# EAGLE library part TIGER (library ic)
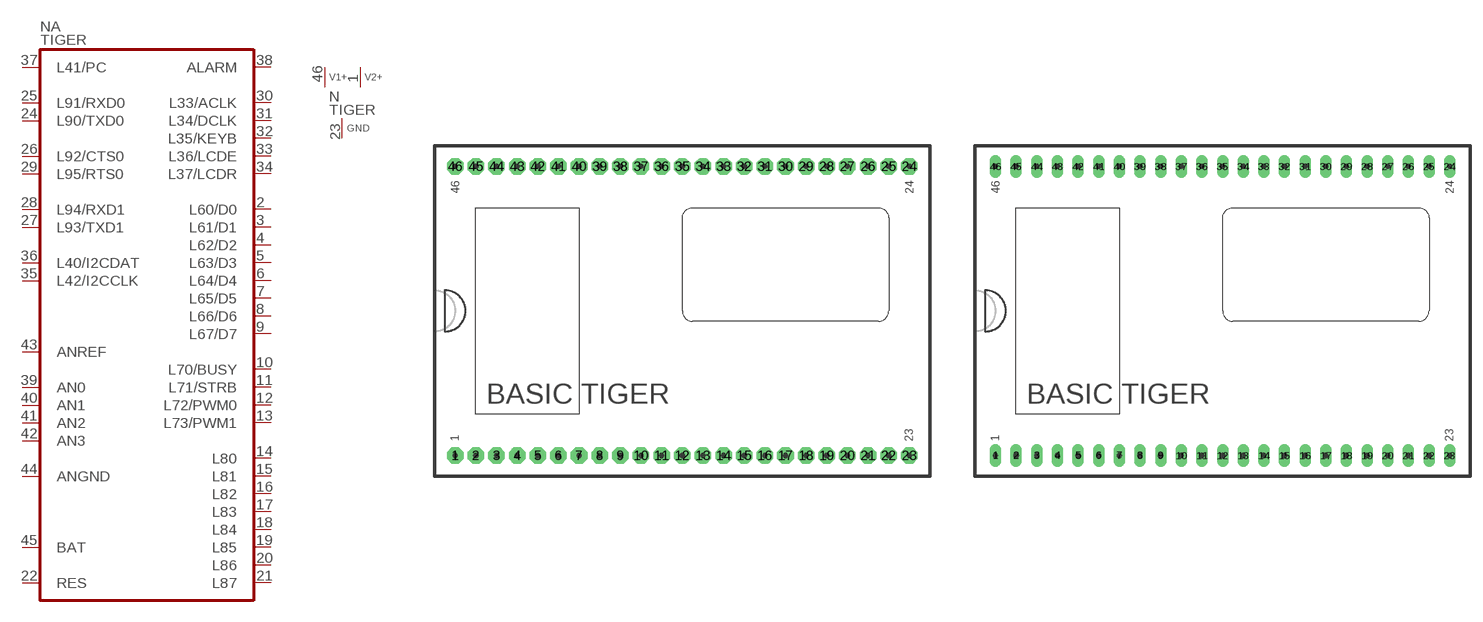
[diagram p17: symbol with the pads of TIGER_N; footprints TIGER_N, TIGER_L]

Designator prefix N; gates A=TIGER P=VTIGER

## TIGERN  [TIGER_N]
1  P:V2+  pwr
2  A:L60/D0
3  A:L61/D1
4  A:L62/D2
5  A:L63/D3
6  A:L64/D4
7  A:L65/D5
8  A:L66/D6
9  A:L67/D7
10  A:L70/BUSY
11  A:L71/STRB
12  A:L72/PWM0
13  A:L73/PWM1
14  A:L80
15  A:L81
16  A:L82
17  A:L83
18  A:L84
19  A:L85
20  A:L86
21  A:L87
22  A:RES  in
23  P:GND  pwr
24  A:L90/TXD0
25  A:L91/RXD0
26  A:L92/CTS0
27  A:L93/TXD1
28  A:L94/RXD1
29  A:L95/RTS0
30  A:L33/ACLK
31  A:L34/DCLK
32  A:L35/KEYB
33  A:L36/LCDE
34  A:L37/LCDR
35  A:L42/I2CCLK
36  A:L40/I2CDAT
37  A:L41/PC
38  A:ALARM  out
39  A:AN0  in
40  A:AN1  in
41  A:AN2  in
42  A:AN3  in
43  A:ANREF  in
44  A:ANGND  in
45  A:BAT
46  P:V1+  pwr

## TIGER  [TIGER_L]
Pads as for TIGER_N

## TIGERL  [TIGER_L]
Pads as for TIGER_N

## TIGERR  [TIGER_S]
Pads as for TIGER_N

## Footprint TIGER_N (pad centres in mm)
drill 0.813 pad 2.032 octagon: 1 -26.67,-17.78; 2 -24.13,-17.78; 3 -21.59,-17.78; 4 -19.05,-17.78; 5 -16.51,-17.78; 6 -13.97,-17.78; 7 -11.43,-17.78; 8 -8.89,-17.78; 9 -6.35,-17.78; 10 -3.81,-17.78; 11 -1.27,-17.78; 12 1.27,-17.78; 13 3.81,-17.78; 14 6.35,-17.78; 15 8.89,-17.78; 16 11.43,-17.78; 17 13.97,-17.78; 18 16.51,-17.78; 19 19.05,-17.78; 20 21.59,-17.78; 21 24.13,-17.78; 22 26.67,-17.78; 23 29.21,-17.78; 24 29.21,17.78; 25 26.67,17.78; 26 24.13,17.78; 27 21.59,17.78; 28 19.05,17.78; 29 16.51,17.78; 30 13.97,17.78; 31 11.43,17.78; 32 8.89,17.78; 33 6.35,17.78; 34 3.81,17.78; 35 1.27,17.78; 36 -1.27,17.78; 37 -3.81,17.78; 38 -6.35,17.78; 39 -8.89,17.78; 40 -11.43,17.78; 41 -13.97,17.78; 42 -16.51,17.78; 43 -19.05,17.78; 44 -21.59,17.78; 45 -24.13,17.78; 46 -26.67,17.78

## Footprint TIGER_L (pad centres in mm)
drill 0.813 pad 1.397 long: 1 -26.67,-17.78; 2 -24.13,-17.78; 3 -21.59,-17.78; 4 -19.05,-17.78; 5 -16.51,-17.78; 6 -13.97,-17.78; 7 -11.43,-17.78; 8 -8.89,-17.78; 9 -6.35,-17.78; 10 -3.81,-17.78; 11 -1.27,-17.78; 12 1.27,-17.78; 13 3.81,-17.78; 14 6.35,-17.78; 15 8.89,-17.78; 16 11.43,-17.78; 17 13.97,-17.78; 18 16.51,-17.78; 19 19.05,-17.78; 20 21.59,-17.78; 21 24.13,-17.78; 22 26.67,-17.78; 23 29.21,-17.78; 24 29.21,17.78; 25 26.67,17.78; 26 24.13,17.78; 27 21.59,17.78; 28 19.05,17.78; 29 16.51,17.78; 30 13.97,17.78; 31 11.43,17.78; 32 8.89,17.78; 33 6.35,17.78; 34 3.81,17.78; 35 1.27,17.78; 36 -1.27,17.78; 37 -3.81,17.78; 38 -6.35,17.78; 39 -8.89,17.78; 40 -11.43,17.78; 41 -13.97,17.78; 42 -16.51,17.78; 43 -19.05,17.78; 44 -21.59,17.78; 45 -24.13,17.78; 46 -26.67,17.78

## Footprint TIGER_S (pad centres in mm)
drill 0.813 pad 1.397 square: 1 -26.67,-17.78; 2 -24.13,-17.78; 3 -21.59,-17.78; 4 -19.05,-17.78; 5 -16.51,-17.78; 6 -13.97,-17.78; 7 -11.43,-17.78; 8 -8.89,-17.78; 9 -6.35,-17.78; 10 -3.81,-17.78; 11 -1.27,-17.78; 12 1.27,-17.78; 13 3.81,-17.78; 14 6.35,-17.78; 15 8.89,-17.78; 16 11.43,-17.78; 17 13.97,-17.78; 18 16.51,-17.78; 19 19.05,-17.78; 20 21.59,-17.78; 21 24.13,-17.78; 22 26.67,-17.78; 23 29.21,-17.78; 24 29.21,17.78; 25 26.67,17.78; 26 24.13,17.78; 27 21.59,17.78; 28 19.05,17.78; 29 16.51,17.78; 30 13.97,17.78; 31 11.43,17.78; 32 8.89,17.78; 33 6.35,17.78; 34 3.81,17.78; 35 1.27,17.78; 36 -1.27,17.78; 37 -3.81,17.78; 38 -6.35,17.78; 39 -8.89,17.78; 40 -11.43,17.78; 41 -13.97,17.78; 42 -16.51,17.78; 43 -19.05,17.78; 44 -21.59,17.78; 45 -24.13,17.78; 46 -26.67,17.78